# EAGLE library part NAND*-A (library parts)
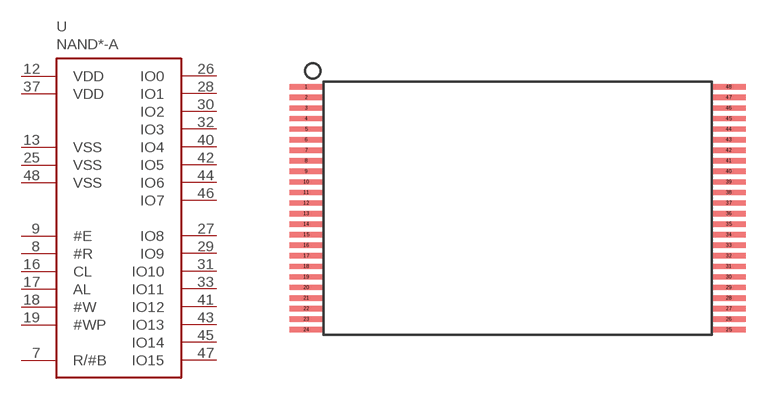
[diagram p3: symbol with the pads of TSSOP48; footprint TSSOP48]

Designator prefix U

## NAND128-A  [TSSOP48]
7  R/#B  out
8  #R  in
9  #E  in
12  VDD  pwr
13  VSS  pwr
16  CL  in
17  AL  in
18  #W  in
19  #WP  in
25  VSS  pwr
26  IO0
27  IO8
28  IO1
29  IO9
30  IO2
31  IO10
32  IO3
33  IO11
37  VDD  pwr
40  IO4
41  IO12
42  IO5
43  IO13
44  IO6
45  IO14
46  IO7
47  IO15
48  VSS  pwr

## Footprint TSSOP48 (pad centres in mm)
smd 1.6 x 0.25: 1 -10,5.75; 2 -10,5.25; 3 -10,4.75; 4 -10,4.25; 5 -10,3.75; 6 -10,3.25; 7 -10,2.75; 8 -10,2.25; 9 -10,1.75; 10 -10,1.25; 11 -10,0.75; 12 -10,0.25; 13 -10,-0.25; 14 -10,-0.75; 15 -10,-1.25; 16 -10,-1.75; 17 -10,-2.25; 18 -10,-2.75; 19 -10,-3.25; 20 -10,-3.75; 21 -10,-4.25; 22 -10,-4.75; 23 -10,-5.25; 24 -10,-5.75; 25 10,-5.75; 26 10,-5.25; 27 10,-4.75; 28 10,-4.25; 29 10,-3.75; 30 10,-3.25; 31 10,-2.75; 32 10,-2.25; 33 10,-1.75; 34 10,-1.25; 35 10,-0.75; 36 10,-0.25; 37 10,0.25; 38 10,0.75; 39 10,1.25; 40 10,1.75; 41 10,2.25; 42 10,2.75; 43 10,3.25; 44 10,3.75; 45 10,4.25; 46 10,4.75; 47 10,5.25; 48 10,5.75